# Altium footprint library LED_TwoBars.PcbLib: 7 footprints
Each footprint in its own frame and in the unit in brackets; x right, y up, seen from the top. Pads: shape width x height; smd on the part's side, far side on the other; paste and mask are expansions set on the pad; w line width, h text height; cw(c..) or ccw(c..) is an arc to the next point about the centre after c.
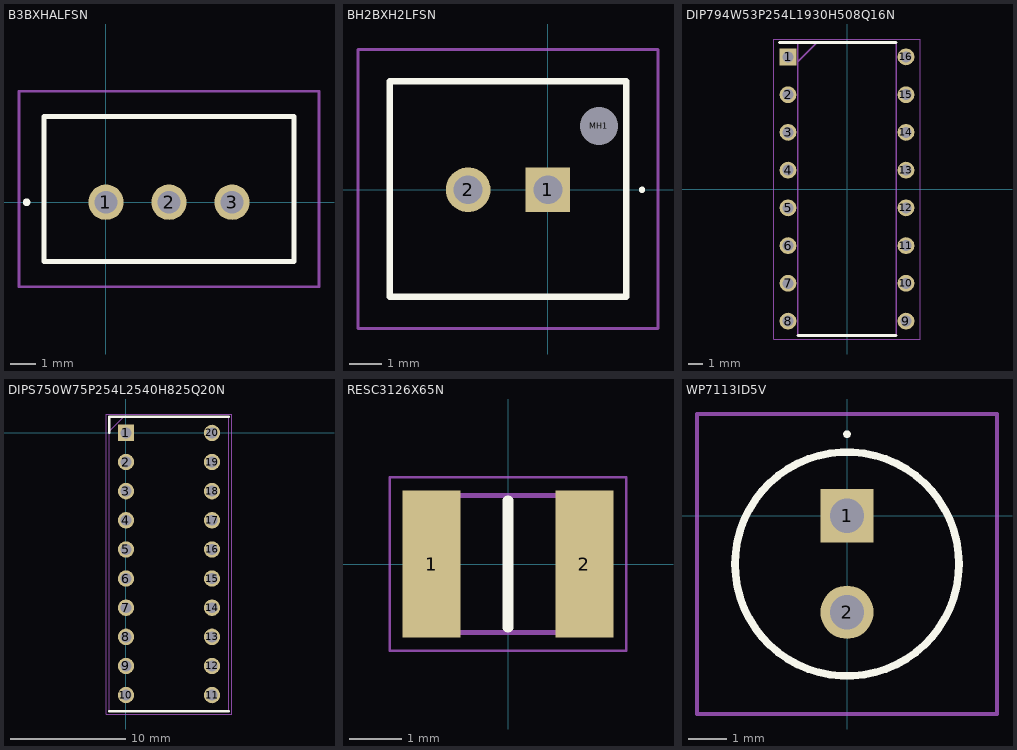
[diagram p0: the footprints below, top view; thin cyan lines are the x and y axes]

## B3BXHALFSN [mm]
pads (3):
  round 1.4 hole 0.9: 1(0,0) 2(2.5,0) 3(5,0)
Top Overlay:
  lines w0.2: -3.2,0 ccw(c-3.15,0) -3.1,0 ; -3.2,0 cw(c-3.15,0) -3.1,0 ; -3.2,0 ccw(c-3.15,0) -3.1,0 ; -2.45,-2.35 -2.45,3.4 7.45,3.4 7.45,-2.35 -2.45,-2.35
Mechanical 13:
  lines w0.1: -2.45,-2.35 -2.45,3.4 7.45,3.4 7.45,-2.35 -2.45,-2.35
Mechanical 15:
  lines w0.1: -3.45,-3.35 -3.45,4.4 8.45,4.4 8.45,-3.35 -3.45,-3.35
3D body "B3B-XH-A_LF__SN_.stp": height 7.09, standoff -3.31, extent -2.449,-2.349 7.451,3.401

## BH2BXH2LFSN [mm]
pads (3):
  rect 1.4x1.4 hole 0.9: 1(0,0)
  round 1.4 hole 0.9: 2(-2.5,0)
  round 0.6 hole 1.2 unplated: MH1(1.6,2)
Top Overlay:
  lines w0.1: 2.9,0 ccw(c2.95,0) 3,0 ccw(c2.95,0) 2.9,0
  lines w0.2: -4.95,-3.35 -4.95,3.4 2.45,3.4 2.45,-3.35 -4.95,-3.35
Mechanical 13:
  lines w0.1: -4.95,-3.35 -4.95,3.4 2.45,3.4 2.45,-3.35 -4.95,-3.35
Mechanical 15:
  lines w0.1: -5.95,-4.35 -5.95,4.4 3.45,4.4 3.45,-4.35 -5.95,-4.35
3D body "BH2B-XH-2_LF__SN_.stp": height 14.3, standoff -5, extent -4.95,-3.35 2.45,3.4

## DIP794W53P254L1930H508Q16N [mm]
pads (16):
  rect 1.13x1.13 hole 0.73: 1(-3.97,8.89)
  round 1.13 hole 0.73: 2(-3.97,6.35) 3(-3.97,3.81) 4(-3.97,1.27) 5(-3.97,-1.27) 6(-3.97,-3.81) 7(-3.97,-6.35) 8(-3.97,-8.89) 9(3.97,-8.89) 10(3.97,-6.35) 11(3.97,-3.81) 12(3.97,-1.27) 13(3.97,1.27) 14(3.97,3.81) 15(3.97,6.35) 16(3.97,8.89)
Top Overlay:
  lines w0.2: -4.535,9.845 3.3,9.845 ; -3.3,-9.845 3.3,-9.845
Mechanical 13:
  lines w0.1: -3.3,8.575 -2.03,9.845 ; -3.3,-9.845 -3.3,9.845 3.3,9.845 3.3,-9.845 -3.3,-9.845
Mechanical 15:
  lines w0.05: -4.945,-10.095 -4.945,10.095 4.945,10.095 4.945,-10.095 -4.945,-10.095
3D body "SN74HC595N.stp": height 5.24, standoff -3.13, extent -3.937,-9.842 3.937,9.842

## DIPS750W75P254L2540H825Q20N [mm]
pads (20):
  rect 1.425x1.425 hole 0.95: 1(0,0)
  round 1.425 hole 0.95: 2(0,-2.54) 3(0,-5.08) 4(0,-7.62) 5(0,-10.16) 6(0,-12.7) 7(0,-15.24) 8(0,-17.78) 9(0,-20.32) 10(0,-22.86) 11(7.5,-22.86) 12(7.5,-20.32) 13(7.5,-17.78) 14(7.5,-15.24) 15(7.5,-12.7) 16(7.5,-10.16) 17(7.5,-7.62) 18(7.5,-5.08) 19(7.5,-2.54) 20(7.5,0)
Top Overlay:
  lines w0.2: -1.455,-24.255 8.955,-24.255 ; -1.455,0 -1.455,1.395 8.955,1.395
Mechanical 13:
  lines w0.1: -1.455,0.125 -0.185,1.395 ; -1.455,-24.255 -1.455,1.395 8.955,1.395 8.955,-24.255 -1.455,-24.255
Mechanical 15:
  lines w0.05: -1.705,-24.505 -1.705,1.645 9.205,1.645 9.205,-24.505 -1.705,-24.505
3D body "DC10GWA.stp": height 6.29, standoff -5.71, extent -1.1,-24.21 9.06,1.19

## PCBComponent_1 [mm]

## RESC3126X65N [mm]
pads (2):
  rect 1.1x2.8 smd: 1(-1.45,0) 2(1.45,0)
Top Overlay:
  lines w0.2: 0,-1.2 0,1.2
Mechanical 13:
  lines w0.1: -1.55,-1.3 -1.55,1.3 1.55,1.3 1.55,-1.3 -1.55,-1.3
Mechanical 15:
  lines w0.05: -2.25,-1.65 -2.25,1.65 2.25,1.65 2.25,-1.65 -2.25,-1.65
3D body "RC1210FR-07330RL.stp": height 0.65, standoff 0, extent -1.55,-1.3 1.55,1.3

## WP7113ID5V [mm]
pads (2):
  rect 1.4x1.4 hole 0.9: 1(0,0)
  round 1.4 hole 0.9: 2(0,-2.54)
Top Overlay:
  lines w0.1: 0,2.1 ccw(c0,2.15) 0,2.2 ccw(c0,2.15) 0,2.1
  lines w0.2: -2.95,-1.27 cw(c0,-1.27) 2.95,-1.27 cw(c0,-1.27) -2.95,-1.27
Mechanical 13:
  lines w0.1: -2.95,-1.27 cw(c0,-1.27) 2.95,-1.27 cw(c0,-1.27) -2.95,-1.27
Mechanical 15:
  lines w0.1: -3.95,-5.22 -3.95,2.68 3.95,2.68 3.95,-5.22 -3.95,-5.22
3D body "WP7113ID5V.stp": height 15.17, standoff -20.43, extent -2.95,-4.146 2.95,1.282